# Altium footprint library FUSC10131X312N.PcbLib: 1 footprints
Each footprint in its own frame and in the unit in brackets; x right, y up, seen from the top. Pads: shape width x height; smd on the part's side, far side on the other; paste and mask are expansions set on the pad; w line width, h text height; cw(c..) or ccw(c..) is an arc to the next point about the centre after c.
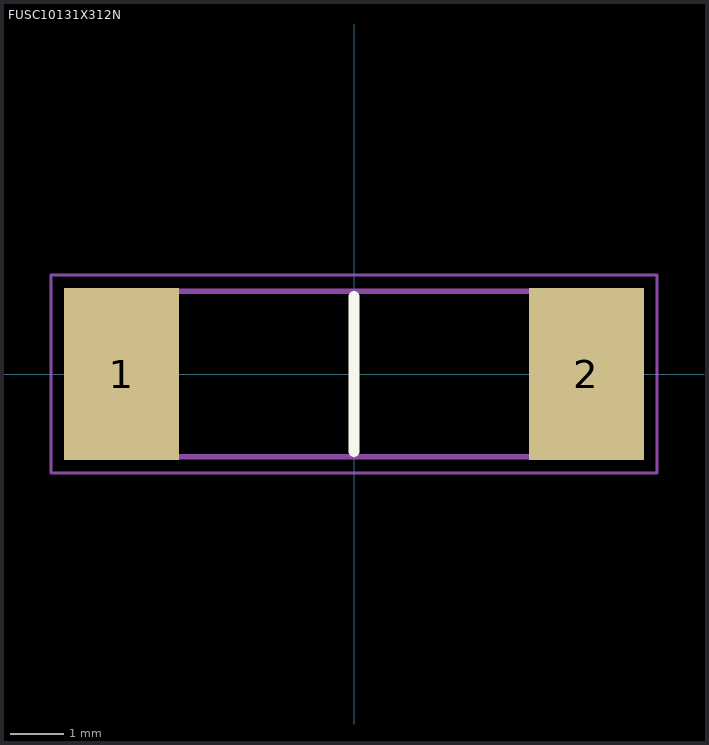
[diagram p0: the footprint, top view; thin cyan lines are the x and y axes]

## FUSC10131X312N [mm]
pads (2):
  rect 2.16x3.23 smd: 1(-4.375,0) 2(4.375,0)
Top Overlay:
  lines w0.2: 0,-1.46 0,1.46
Mechanical 15:
  lines w0.1: -5.05,-1.56 5.05,-1.56 5.05,1.56 -5.05,1.56 -5.05,-1.56
Mechanical 20:
  lines w0.05: -5.705,-1.865 5.705,-1.865 5.705,1.865 -5.705,1.865 -5.705,-1.865